# Altium footprint library Capacitor_D10_1.PcbLib: 1 footprints
Each footprint in its own frame and in the unit in brackets; x right, y up, seen from the top. Pads: shape width x height; smd on the part's side, far side on the other; paste and mask are expansions set on the pad; w line width, h text height; cw(c..) or ccw(c..) is an arc to the next point about the centre after c.
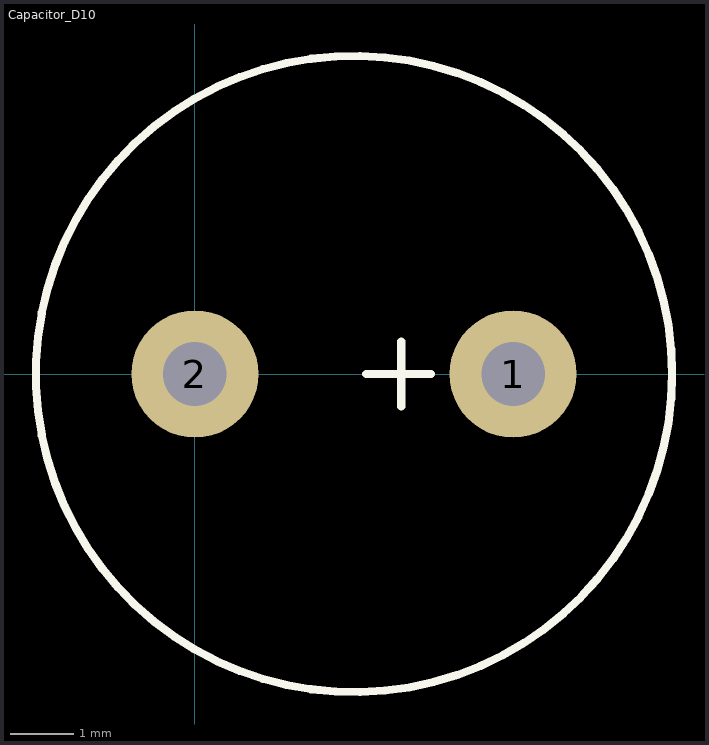
[diagram p0: the footprint, top view; thin cyan lines are the x and y axes]

## Capacitor_D10 [mm]
pads (2):
  round 2 hole 1: 1(5,0) 2(0,0)
Top Overlay:
  circle w0.127: c2.5,0 r5
  lines w0.127: 2.692,0 3.708,0 ; 3.242,-0.508 3.242,0.508